# EAGLE library part 55917-24 (library con-molex-minifit)
DIP connector 2mm 24 way
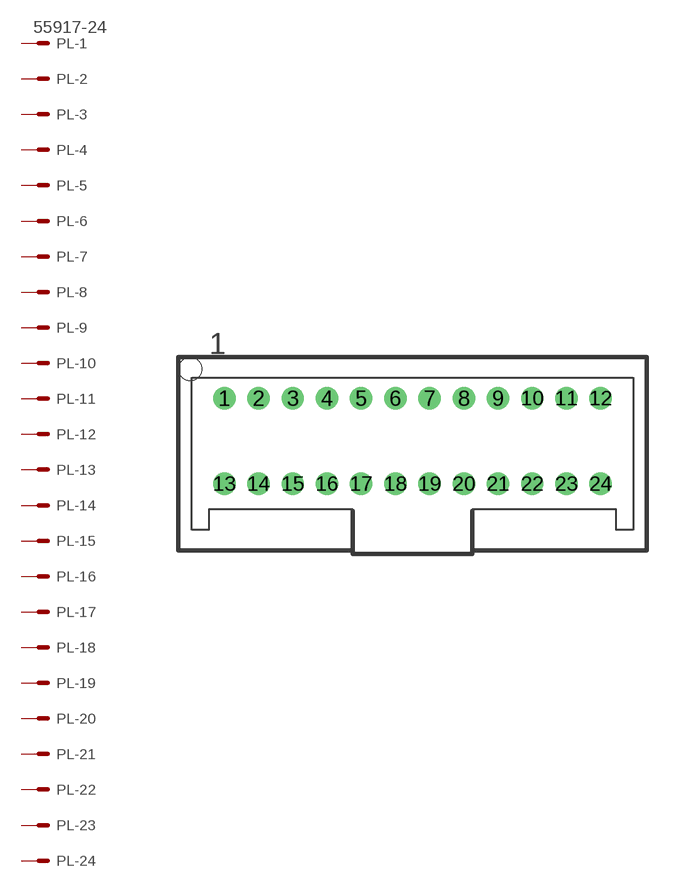
[diagram p18: symbol with the pads of 55917-24; footprint 55917-24]

Designator prefix PL; gates -1=MV -2=M -3=M -4=M -5=M -6=M -7=M -8=M -9=M -10=M -11=M -12=M -13=M -14=M -15=M -16=M -17=M -18=M -19=M -20=M -21=M -22=M -23=M -24=M

## 55917-24  [55917-24]
1  -1:S  pas
2  -2:S  pas
3  -3:S  pas
4  -4:S  pas
5  -5:S  pas
6  -6:S  pas
7  -7:S  pas
8  -8:S  pas
9  -9:S  pas
10  -10:S  pas
11  -11:S  pas
12  -12:S  pas
13  -13:S  pas
14  -14:S  pas
15  -15:S  pas
16  -16:S  pas
17  -17:S  pas
18  -18:S  pas
19  -19:S  pas
20  -20:S  pas
21  -21:S  pas
22  -22:S  pas
23  -23:S  pas
24  -24:S  pas

## Footprint 55917-24 (pad centres in mm)
DIP connector 2mm 24 way
drill 0.8 round: 1 -11,2.5; 2 -9,2.5; 3 -7,2.5; 4 -5,2.5; 5 -3,2.5; 6 -1,2.5; 7 1,2.5; 8 3,2.5; 9 5,2.5; 10 7,2.5; 11 9,2.5; 12 11,2.5; 13 -11,-2.5; 14 -9,-2.5; 15 -7,-2.5; 16 -5,-2.5; 17 -3,-2.5; 18 -1,-2.5; 19 1,-2.5; 20 3,-2.5; 21 5,-2.5; 22 7,-2.5; 23 9,-2.5; 24 11,-2.5
hole 1.35 at -13,4.2